# Altium schematic symbol library soic-8-breakout-board.SchLib: 3 symbols
Pins are listed as number, name and electrical type; pins without a type are passive.

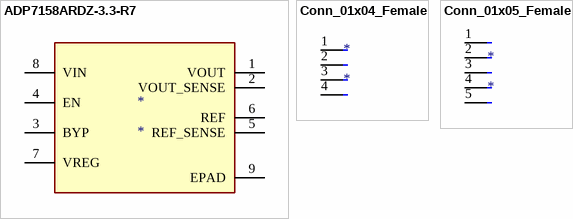
[diagram p0: symbols ADP7158ARDZ-3.3-R7 to Conn_01x05_Female]

## ADP7158ARDZ-3.3-R7
designator *
pins: 1 VOUT, 2 VOUT_SENSE, 3 BYP, 4 EN, 5 REF_SENSE, 6 REF, 7 VREG, 8 VIN, 9 EPAD

## Conn_01x04_Female
designator *
pins: 1 Pin_1, 2 Pin_2, 3 Pin_3, 4 Pin_4

## Conn_01x05_Female
designator *
pins: 1 Pin_1, 2 Pin_2, 3 Pin_3, 4 Pin_4, 5 Pin_5